# EAGLE library part TRINKET (library GradeFreeEngineer)
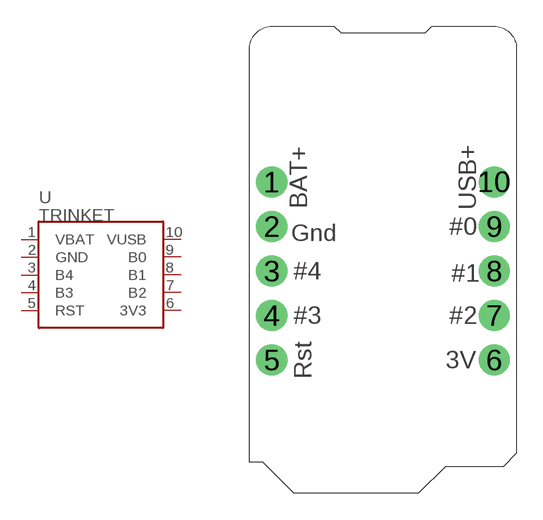
[diagram p0: symbol with the pads of TRINKET; footprint TRINKET]

Designator prefix U

## TRINKET  [TRINKET]
1  VBAT
2  GND
3  B4
4  B3
5  RST
6  3V3
7  B2
8  B1
9  B0
10  VUSB

## Footprint TRINKET (pad centres in mm)
drill 1.016 pad 1.778: 1 -6.35,3.81; 2 -6.35,1.27; 3 -6.35,-1.27; 4 -6.35,-3.81; 5 -6.35,-6.35; 6 6.35,-6.35; 7 6.35,-3.81; 8 6.35,-1.27; 9 6.35,1.27; 10 6.35,3.81